# Altium footprint library MOLEX_0480372200.PcbLib: 1 footprints
Each footprint in its own frame and in the unit in brackets; x right, y up, seen from the top. Pads: shape width x height; smd on the part's side, far side on the other; paste and mask are expansions set on the pad; w line width, h text height; cw(c..) or ccw(c..) is an arc to the next point about the centre after c.
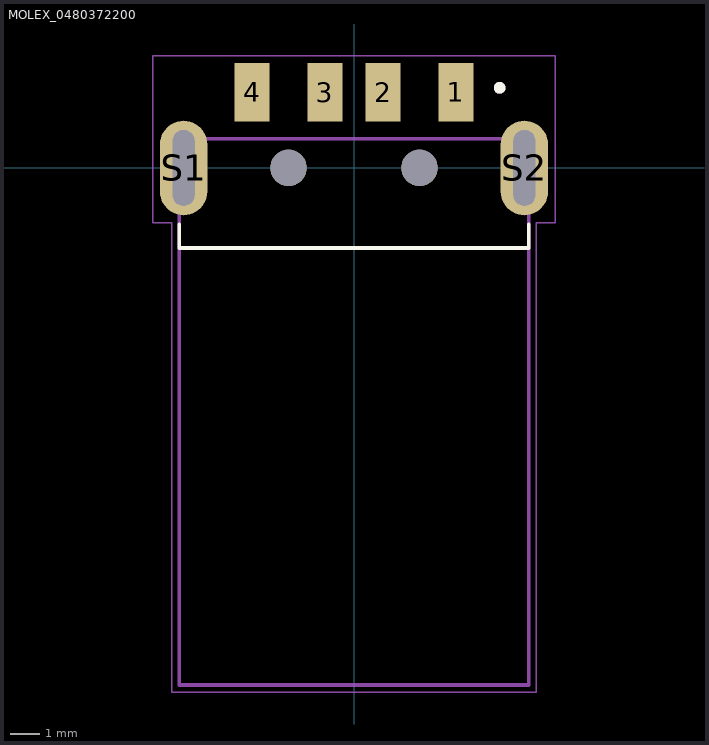
[diagram p0: the footprint, top view; thin cyan lines are the x and y axes]

## MOLEX_0480372200 [mm]
pads (8):
  rect 1.2x2 smd: 1(3.5,2.6) 2(1,2.6) 3(-1,2.6) 4(-3.5,2.6)
  oval 1.625x3.25 hole 0.75 slot 2.6 at 90 deg: S1(-5.85,0) S2(5.85,0)
  round 1.25 hole 1.25 unplated: ""(-2.25,0) ""(2.25,0)
Top Overlay:
  circle w0.2: c5,2.75 r0.1
  lines w0.127: -6,-1.945 -6,-2.75 6,-2.75 6,-1.945
Mechanical 13:
  circle w0.2: c5,2.75 r0.1
  lines w0.127: -6,-2.75 -6,-17.75 6,-17.75 6,-2.75 ; -6,-2.75 -6,1 6,1 6,-2.75 ; -6,-2.75 6,-2.75
  text "PCB EDGE" at -3.5,-2.5 h1.02
Mechanical 15:
  lines w0.05: -6.913,-1.875 -6.25,-1.875 -6.25,-18 6.25,-18 6.25,-1.875 6.913,-1.875 6.913,3.85 -6.913,3.85 -6.913,-1.875